# Altium schematic symbol library K104K10X7RF53H5.SchLib: 1 symbol
Pins are listed as number, name and electrical type; pins without a type are passive.

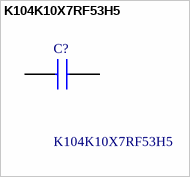
[diagram p0: symbol K104K10X7RF53H5]

## K104K10X7RF53H5
designator C?
Vishay 100nF Multilayer Ceramic Capacitor MLCC 50V dc +/-10% X7R Dielectric Radial, Max. Temp. +125C; Geometry.Height: 3mm; Manufacturer_Name: Vishay; Manufacturer_Part_Number: K104K10X7RF53H5; Mouser Part Number: 594-K104K10X7RF53H5; Mouser Price/Stock: https://www.mouser.co.uk/ProductDetail/Vishay-BC-Components/K104K10X7RF53H5?qs=fflMSwnno4x9bs4LC2tdMA%3D%3D; Arrow Part Number: K104K10X7RF53H5; Arrow Price/Stock: https://www.arrow.com/en/products/k104k10x7rf53h5/vishay?region=nac; Datasheet Link: http://www.vishay.com/docs/45171/kseries.pdf
footprint K104K10X7RF53H5
pins: 1, 2